# Altium footprint library DIODE.PCBLIB: 47 footprints (part 3 of 3)
Each footprint in its own frame and in the unit in brackets; x right, y up, seen from the top. Pads: shape width x height; smd on the part's side, far side on the other; paste and mask are expansions set on the pad; w line width, h text height; cw(c..) or ccw(c..) is an arc to the next point about the centre after c.
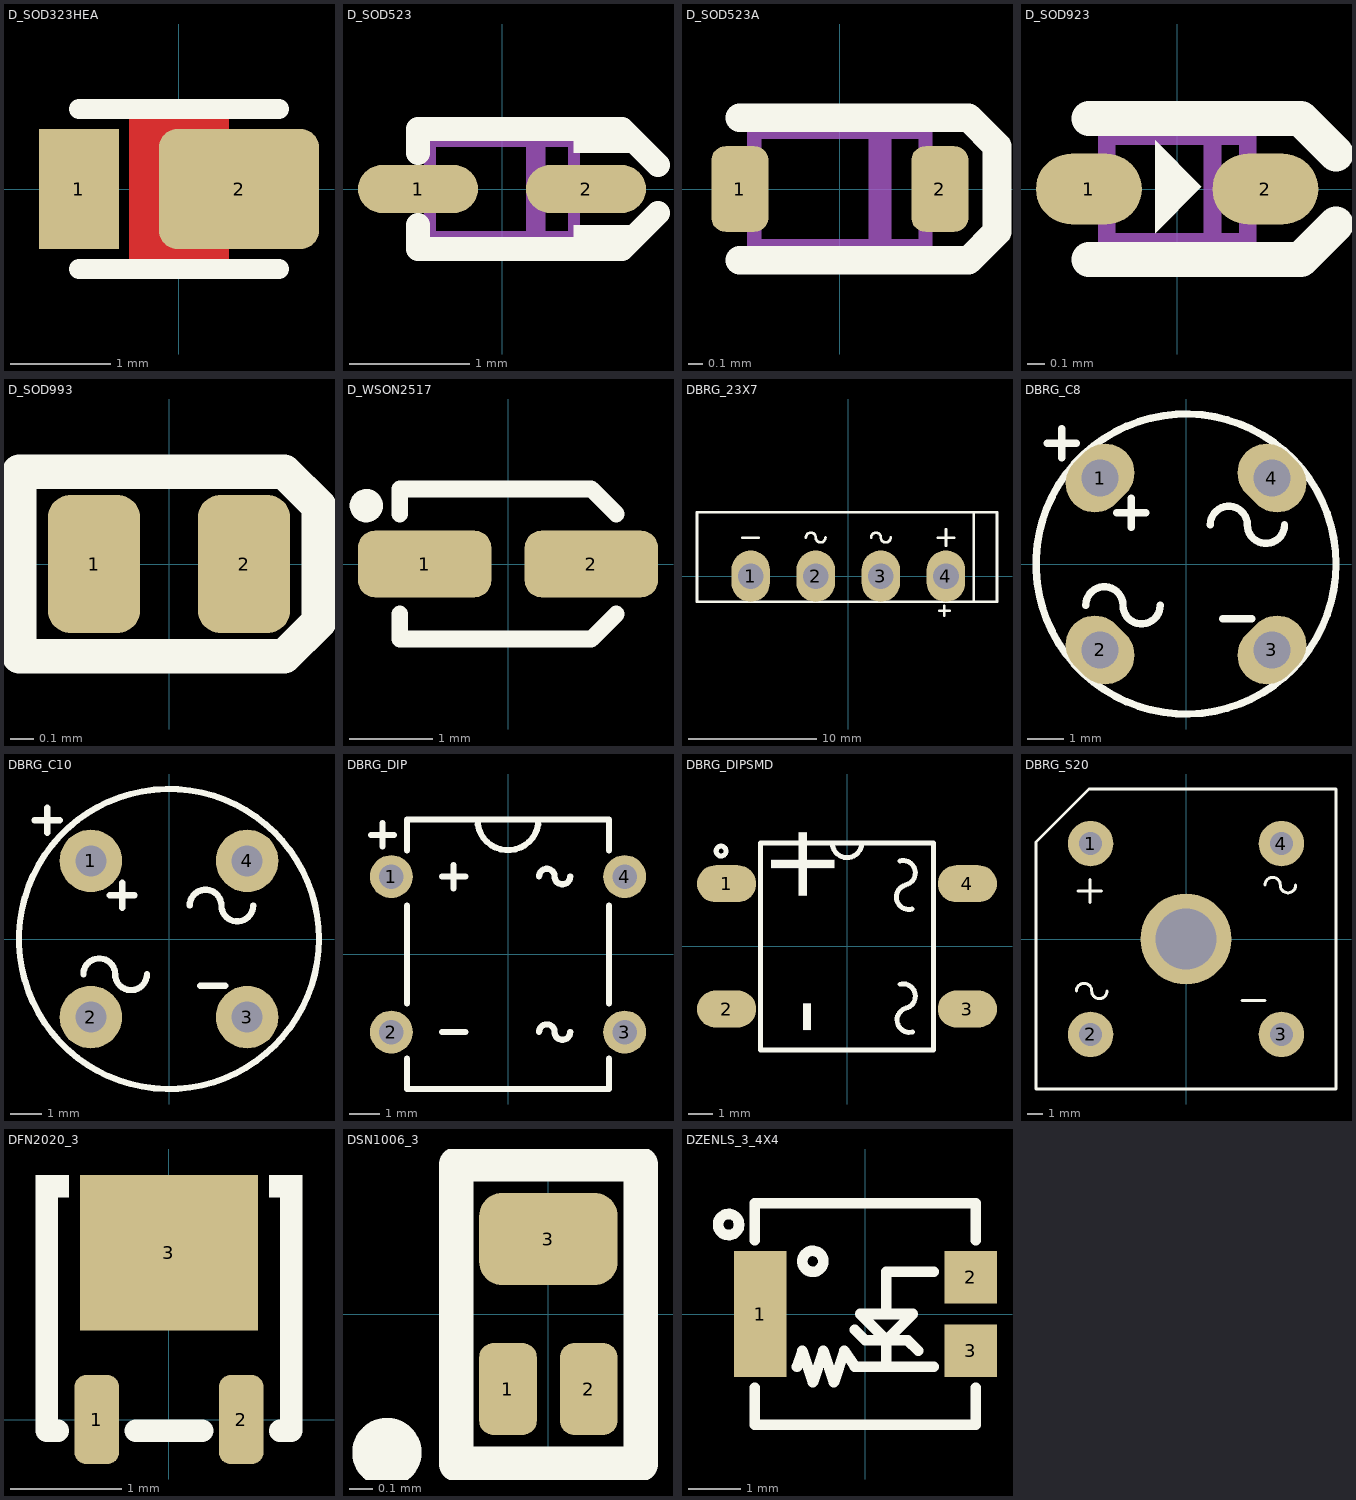
[diagram p2: the footprints below, top view; thin cyan lines are the x and y axes]

## D_SOD323HEA [mm] "DIODE0805, SOD-323"
height 0.8
pads (2):
  rect 0.8x1.2 smd mask+0.075: 1(-1,0)
  rrect30% 1.6x1.2 smd mask+0.075: 2(0.6,0)
Top Layer:
  pour cut-out: -0.5,0.8 0.5,0.8 0.5,-0.8 -0.5,-0.8
Top Overlay:
  lines w0.2: -1,-0.8 1,-0.8 ; -1,0.8 1,0.8
3D body "User Library-SOD-323HE.step": height 0.78, standoff 0, extent -1.35,-0.7 1.35,0.7

## D_SOD523 [mm] "SOD523 SC-79 Molded Diode, 2-Leads, 1.2x0.8mm"
height 0.7
pads (2):
  oval 1x0.4 smd mask+0.075: 1(-0.7,0) 2(0.7,0)
Top Overlay:
  region: 0.6,-0.5 0.6,-0.3 1.2,-0.3 1,-0.5
  region: 0.6,0.5 0.6,0.3 1.2,0.3 1,0.5
  lines w0.2: -0.7,-0.3 -0.7,-0.5 1,-0.5 1.3,-0.2 ; -0.7,0.3 -0.7,0.5 1,0.5 1.3,0.2
Mechanical 13:
  rectangle: 0.2,-0.4 0.361,0.4
  lines w0.1: -0.6,-0.4 0.6,-0.4 0.6,0.4 -0.6,0.4 -0.6,-0.4
3D body "User Library-SOD-523F.step": height 0.7, standoff 0, extent -0.8,-0.399 0.8,0.399

## D_SOD523A [mm] "SOD523 SC-79 Molded Diode, 2-Leads, 1.2x0.8mm"
height 0.7
pads (2):
  rrect50% 0.4x0.6 smd paste-0.05 mask+0.075: 1(-0.7,0) 2(0.7,0)
Top Overlay:
  lines w0.2: -0.7,-0.5 0.9,-0.5 1.1,-0.3 1.1,0.3 0.9,0.5 -0.7,0.5
Mechanical 13:
  rectangle: 0.2,-0.4 0.361,0.4
  lines w0.1: -0.6,-0.4 0.6,-0.4 0.6,0.4 -0.6,0.4 -0.6,-0.4
3D body "User Library-SOD-523F.step": height 0.7, standoff 0, extent -0.8,-0.399 0.8,0.399

## D_SOD923 [mm] "SOD-923 2-Leads, Body 0.60x.8mm"
height 0.4
pads (2):
  oval 0.6x0.4 smd mask+0.075: 1(-0.5,0) 2(0.5,0)
Top Overlay:
  region: -0.125,0.275 -0.125,-0.25 0.138,0.013
  lines w0.2: -0.5,-0.4 0.7,-0.4 0.9,-0.2 ; -0.5,0.4 0.7,0.4 0.9,0.2
Mechanical 13:
  lines w0.1: 0.2,-0.3 0.2,0.3 ; -0.4,-0.3 0.4,-0.3 0.4,0.3 -0.4,0.3 -0.4,-0.3
3D body "User Library-DIODE_SOD-923.step": height 0.43, standoff 0, extent -0.525,-0.325 0.525,0.325

## D_SOD993 [mm] "X2-DSN1006-2, SOD993, 1X0.6X0.3mm"
height 0.3
pads (2):
  rrect50% 0.4x0.6 smd mask+0.075: 1(-0.325,0) 2(0.325,0)
Top Overlay:
  lines w0.15: -0.65,-0.4 0.5,-0.4 0.65,-0.25 0.65,0.25 0.5,0.4 -0.65,0.4 -0.65,-0.4
3D body "User Library-DSN1006-2.step": height 0.47, standoff -0.03, extent -0.5,-0.3 0.5,0.3

## D_WSON2517 [mm] "WSON, DQX 2.5X1.7mm"
height 0.8
pads (2):
  rrect50% 1.6x0.8 smd mask+0.075: 1(-1,0) 2(1,0)
Top Overlay:
  circle w0.2: c-1.7,0.7 r0.1
  lines w0.2: -1.3,-0.6 -1.3,-0.9 1,-0.9 1.3,-0.6 ; -1.3,0.6 -1.3,0.9 1,0.9 1.3,0.6
3D body: height 0.8, standoff 0.01, extent -1.25,-0.85 1.25,0.85
3D body: height 0.2, standoff 0, extent -1.265,0.1 -0.25,0.4
3D body: height 0.2, standoff 0, extent -1.265,-0.4 -0.25,-0.1
3D body: height 0.1, standoff 0, extent -1.1,-0.1 -0.25,0.1
3D body: height 0.1, standoff 0, extent 0.25,-0.1 1.1,0.1
3D body: height 0.2, standoff 0, extent 0.25,-0.4 1.265,-0.1
3D body: height 0.2, standoff 0, extent 0.25,0.1 1.265,0.4

## DBRG_23X7 [mm] "BRDIGE RECTIFIER, KBU 810 pitch: 5.08mm, 23X7X19mm"
height 19
pads (4):
  oval 3x4 hole 2: 1(-7.62,0) 2(-2.54,0) 3(2.54,0) 4(7.62,0)
Top Overlay:
  lines w0.2: -8.255,3.009 -6.985,3.009 ; -3.302,3.015 cw(c-2.921,3.015) -2.54,3.015 ccw(c-2.159,3.015) -1.778,3.015 ; 1.778,3.015 cw(c2.159,3.015) 2.54,3.015 ccw(c2.921,3.015) 3.302,3.015 ; 6.985,3.009 8.255,3.009 ; 7.1,-2.7 7.9,-2.7 ; 7.5,-3.1 7.5,-2.3 ; 7.62,2.374 7.62,3.644 ; 9.8,-2 9.8,5 ; -11.8,-2 -11.8,5 11.6,5 11.6,-2 -11.8,-2
3D body "KBU8M.STEP": height 19.3, standoff -4, extent -11.7,-1.91 11.5,4.95

## DBRG_C8 [mm] "BRDIGE RECTIFIER, pitch: 4.7mm, 8X8mm"
height 5.1
pads (4):
  oval 1.6x2 hole 1 rot 135: 1(-2.35,2.35) 3(2.35,-2.35)
  oval 1.6x2 hole 1 rot 45: 2(-2.35,-2.35) 4(2.35,2.35)
Top Overlay:
  circle w0.2: c0,0 r4.1
  lines w0.2: -3.8,3.3 -3,3.3 ; -3.4,2.9 -3.4,3.7 ; -2.739,-1.129 cw(c-2.231,-1.129) -1.723,-1.129 ccw(c-1.215,-1.129) -0.707,-1.129 ; -1.9,1.4 -1.1,1.4 ; -1.5,1 -1.5,1.8 ; 0.661,1.071 cw(c1.169,1.071) 1.677,1.071 ccw(c2.185,1.071) 2.693,1.071 ; 1,-1.5 1.8,-1.5
3D body "bridge.STEP": height 5.21, standoff -1.9, extent -4.05,-4.05 4.05,4.05

## DBRG_C10 [mm] "BRDIGE RECTIFIER, WOB WOG, pitch: 5.08mm, 10X10mm"
pads (4):
  round 2 hole 1: 1(-2.5,2.5) 2(-2.5,-2.5) 3(2.5,-2.5) 4(2.5,2.5)
Top Overlay:
  circle w0.2: c0,0 r4.8
  lines w0.2: -4.3,3.8 -3.5,3.8 ; -3.9,3.4 -3.9,4.2 ; -2.739,-1.129 cw(c-2.231,-1.129) -1.723,-1.129 ccw(c-1.215,-1.129) -0.707,-1.129 ; -1.9,1.4 -1.1,1.4 ; -1.5,1 -1.5,1.8 ; 0.661,1.071 cw(c1.169,1.071) 1.677,1.071 ccw(c2.185,1.071) 2.693,1.071 ; 1,-1.5 1.8,-1.5
3D body "User Library-WOB-1.step": height 5.6, standoff -3.5, extent -4.65,-4.645 4.65,4.645

## DBRG_DIP [mm] "BRDIGE RECTIFIER, pitch: 5.08mm, 8X5mm"
pads (4):
  round 1.4 / inner round 1.4 / far side oct 2.2x1.4 hole 0.8: 1(-3.81,2.54)
  round 1.4 / inner round 1.4 / far side oval 2.2x1.4 hole 0.8: 2(-3.81,-2.54) 3(3.81,-2.54) 4(3.81,2.54)
Top Overlay:
  lines w0.2: -4.481,3.9 -3.719,3.9 ; -4.1,3.519 -4.1,4.281 ; -3.3,-3.4 -3.3,-4.4 3.3,-4.4 3.3,-3.4 ; -3.3,-1.6 -3.3,1.6 ; -3.3,3.4 -3.3,4.4 3.3,4.4 3.3,3.4 ; -2.159,-2.54 -1.397,-2.54 ; -2.159,2.54 -1.397,2.54 ; -1.778,2.159 -1.778,2.921 ; -1,4.4 ccw(c0,4.4) 1,4.4 ; 1.016,-2.54 cw(c1.27,-2.54) 1.524,-2.54 ccw(c1.778,-2.54) 2.032,-2.54 ; 1.016,2.54 cw(c1.27,2.54) 1.524,2.54 ccw(c1.778,2.54) 2.032,2.54 ; 3.3,-1.6 3.3,1.6
3D body "User Library-DFM_Bridge_Rectifier.step": height 4.05, standoff -3.35, extent -4,-4.255 4,4.255

## DBRG_DIPSMD [mm] "BRIDGE RECTIFIER, pitch: 5.08mm, 8X6mm, DB-S, DF005S"
pads (4):
  oval 2.4x1.5 smd: 1(-4.88,2.54) 2(-4.88,-2.54) 3(4.88,-2.54) 4(4.88,2.54)
Top Overlay:
  circle w0.2: c-5.102,3.864 r0.2
  lines w0.2: -0.6,4.2 ccw(c0,4.2) 0.599,4.175 ; 2.141,-1.534 cw(c2.271,-2.017) 2.4,-2.5 ccw(c2.529,-2.983) 2.659,-3.466 ; 2.141,3.466 cw(c2.271,2.983) 2.4,2.5 ; 2.371,2.483 ccw(c2.5,2) 2.629,1.517 ; -3.5,-4.2 3.5,-4.2 3.5,4.2 -3.5,4.2 -3.5,-4.2
  text "+" at -0.5,1.6 h3
  text "-" at -0.5,-3.6 h3
3D body "User Library-PONTE-1_DF_smt.STEP": height 2.7, standoff 0, extent -5.075,-4.05 5.075,4.05

## DBRG_S20 [mm] "BRIDGE RECTIFIER, pitch: 12.7mm, 20X20mm"
pads (5):
  round 3 hole 1.5: 1(-6.3,6.3) 2(-6.3,-6.3) 3(6.3,-6.3) 4(6.3,6.3)
  round 6 hole 4: ""(0,0)
Top Overlay:
  lines w0.2: -7.239,-3.429 cw(c-6.731,-3.429) -6.223,-3.429 ccw(c-5.715,-3.429) -5.207,-3.429 ; -7.112,3.175 -5.588,3.175 ; -6.35,2.413 -6.35,3.937 ; 3.683,-4.064 5.207,-4.064 ; 5.207,3.556 cw(c5.715,3.556) 6.223,3.556 ccw(c6.731,3.556) 7.239,3.556 ; -9.9,-9.9 -9.9,6.4 -6.4,9.9 9.9,9.9 9.9,-9.9 -9.9,-9.9
3D body "User Library-BR-8.step": height 7.5, standoff -3.5, extent -9.8,-9.8 9.8,9.8

## DFN2020_3 [mm] "DFN2020D-3, SOT1061D, Body 2X2X0.65mm,"
height 0.65
pads (3):
  rrect50% 0.4x0.8 smd mask+0.075: 1(-0.65,0) 2(0.65,0)
  rect 1.6x1.4 smd mask+0.075: 3(0,1.5)
Top Overlay:
  rectangle: -1.2,2 -0.9,2.2
  region: 1.2,2.2 0.9,2.2 0.9,2 1.2,2
  lines w0.2: -1.1,2.1 -1.1,-0.1 -1,-0.1 ; -0.3,-0.1 0.3,-0.1 ; 1,-0.1 1.1,-0.1 1.1,2.1
3D body "User Library-SOT1061.step": height 0.65, standoff 0, extent -1,0 1,2.002

## DSN1006_3 [mm] "X2-DSN1006-3, 1X0.6X0.35mm"
height 0.35
pads (3):
  rrect50% 0.25x0.4 smd mask+0.05: 1(-0.175,-0.325) 2(0.175,-0.325)
  rrect50% 0.6x0.4 smd mask+0.05: 3(0,0.325)
Top Overlay:
  circle w0.2: c-0.7,-0.6 r0.05
  lines w0.15: -0.4,-0.65 0.4,-0.65 0.4,0.65 -0.4,0.65 -0.4,-0.65
3D body "X1-DFN1006-3.stp": height 0.5, standoff 0, extent -0.3,-0.5 0.3,0.5

## DZENLS_3_4X4 [mm]
pads (3):
  rect 1x2.4 smd mask+0.1: 1(-2,0)
  rect 1x1 smd mask+0.1: 2(2,0.7) 3(2,-0.7)
Top Overlay:
  circle w0.2: c-2.6,1.7 r0.2
  circle w0.2: c-1,1 r0.2
  lines w0.2: -2.1,-1.4 -2.1,-2.1 2.1,-2.1 2.1,-1.4 ; -2.1,1.4 -2.1,2.1 2.1,2.1 2.1,1.4 ; -1.3,-1 -1.2,-0.7 -1,-1.3 -0.8,-0.7 -0.6,-1.3 -0.4,-0.7 -0.2,-1 0.4,-1 ; -0.2,-0.3 0,-0.5 0.8,-0.5 1,-0.7 ; 0.4,0 0.4,0.8 1.3,0.8 ; 1.3,-1 0.4,-1 ; 0.4,-1 0.4,-0.5 ; 0.4,-0.5 -0.1,0 0.9,0 0.4,-0.5 ; 0.5,-0.5 0.5,-0.5
3D body: height 2, standoff 0, extent -2,-2 2,2